# Altium footprint library Transistor.PcbLib: 227 footprints (part 14 of 15)
Each footprint in its own frame and in the unit in brackets; x right, y up, seen from the top. Pads: shape width x height; smd on the part's side, far side on the other; paste and mask are expansions set on the pad; w line width, h text height; cw(c..) or ccw(c..) is an arc to the next point about the centre after c.
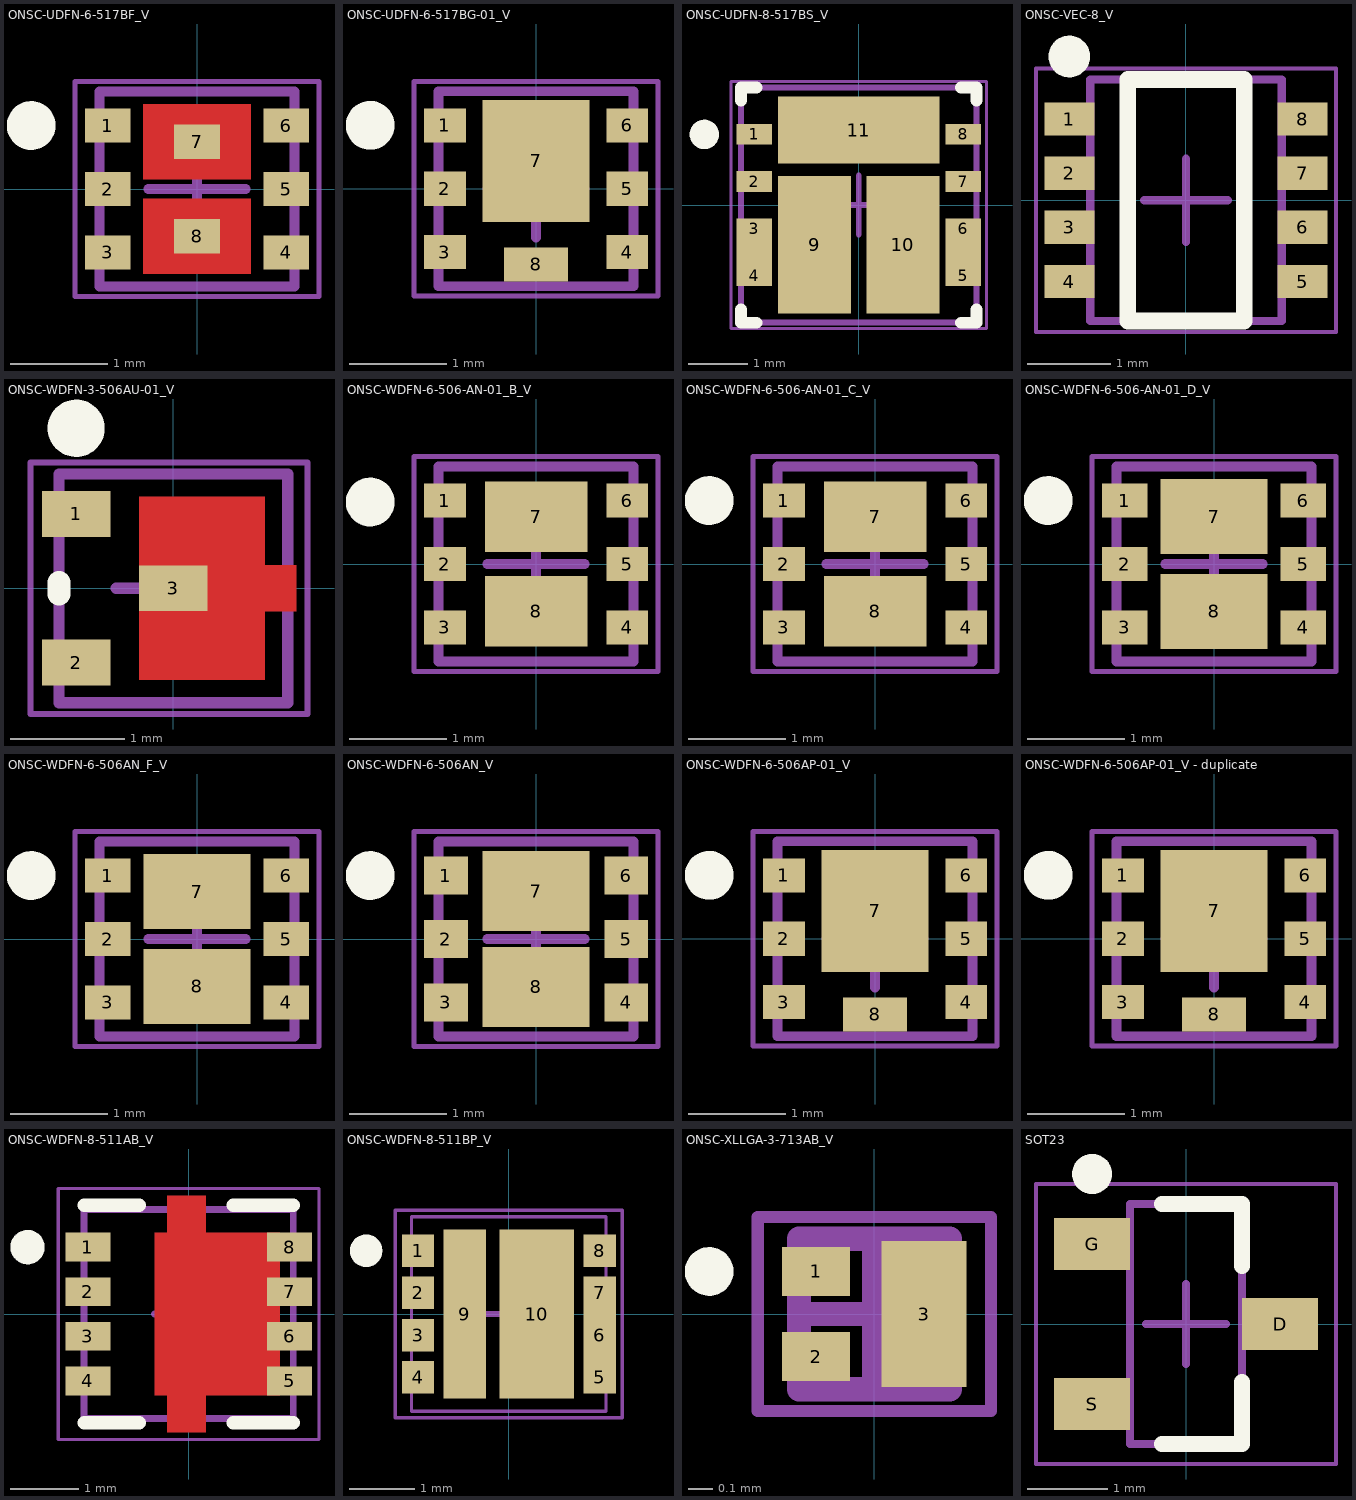
[diagram p13: the footprints below, top view; thin cyan lines are the x and y axes]

## ONSC-UDFN-6-517BF_V [mm] "SON, 6-Leads, Body 2x2mm, Pitch 0.65mm"
height 0.55
pads (8):
  rect 0.47x0.35 smd: 1(-0.915,0.65) 2(-0.915,0) 3(-0.915,-0.65) 4(0.915,-0.65) 5(0.915,0) 6(0.915,0.65)
  rect 0.47x0.35 smd paste+0 mask+0: 7(0,0.485) 8(0,-0.485)
Top Layer:
  region: -0.55,0.1 -0.55,0.87 0.55,0.87 0.55,0.1
  region: -0.55,-0.87 -0.55,-0.1 0.55,-0.1 0.55,-0.87
Top Overlay:
  circle w0.25: c-1.7,0.65 r0.125
Mechanical 13:
  lines w0.1: -1,-1 -1,1 1,1 1,-1 -1,-1
Mechanical 15:
  lines w0.05: -1.25,-1.1 -1.25,1.1 1.25,1.1 1.25,-1.1 -1.25,-1.1
  lines w0.1: -0.5,0 0.5,0 ; 0,-0.5 0,0.5
3D body: height 0.55, standoff 0, extent -1,-1 1,1

## ONSC-UDFN-6-517BG-01_V [mm] "SON, 6-Leads, Body 2x2mm, Pitch 0.65mm"
height 0.55
pads (8):
  rect 0.43x0.35 smd: 1(-0.935,0.65) 2(-0.935,0) 3(-0.935,-0.65) 4(0.935,-0.65) 5(0.935,0) 6(0.935,0.65)
  rect 1.1x1.25 smd: 7(0,0.285)
  rect 0.66x0.35 smd: 8(0,-0.775)
Top Overlay:
  circle w0.25: c-1.7,0.65 r0.125
Mechanical 13:
  lines w0.1: -1,-1 1,-1 1,1 -1,1 -1,-1
Mechanical 15:
  lines w0.05: -1.25,-1.1 1.25,-1.1 1.25,1.1 -1.25,1.1 -1.25,-1.1
  lines w0.1: -0.5,0 0.5,0 ; 0,-0.5 0,0.5
3D body: height 0.55, standoff 0, extent -1,-1 1,1

## ONSC-UDFN-8-517BS_V [mm] "SON, 8-Leads, Body 4x4mm, Pitch 0.8mm"
height 0.55
pads (13):
  rect 0.6x0.35 smd: 1(-1.775,1.2) 2(-1.775,0.4) 3(-1.775,-0.4) 4(-1.775,-1.2) 5(1.775,-1.2) 6(1.775,-0.4) 7(1.775,0.4) 8(1.775,1.2)
  rect 1.24x2.34 smd: 9(-0.75,-0.675) 10(0.75,-0.675)
  rect 2.74x1.14 smd: 11(0,1.275)
  rect 0.6x1.15 smd: ""(-1.775,-0.8) ""(1.775,-0.8)
Top Overlay:
  circle w0.25: c-2.625,1.2 r0.125
  lines w0.2: -2,-1.775 -2,-2 -1.739,-2 ; -2,1.775 -2,2 -1.739,2 ; 1.739,-2 2,-2 2,-1.775 ; 1.739,2 2,2 2,1.775
Mechanical 13:
  lines w0.1: -2,-2 -2,2 2,2 2,-2 -2,-2
Mechanical 15:
  lines w0.05: -2.175,-2.1 -2.175,2.1 2.175,2.1 2.175,-2.1 -2.175,-2.1
  lines w0.1: -0.5,0 0.5,0 ; 0,-0.5 0,0.5
3D body: height 0.55, standoff 0, extent -2,-2 2,2

## ONSC-VEC-8_V [mm] "SOT23, 8-Leads, Body 2.9x2.3mm, Pitch 0.65mm"
height 0.8
pads (8):
  rect 0.6x0.4 smd: 1(-1.4,0.975) 2(-1.4,0.325) 3(-1.4,-0.325) 4(-1.4,-0.975) 5(1.4,-0.975) 6(1.4,-0.325) 7(1.4,0.325) 8(1.4,0.975)
Top Overlay:
  circle w0.25: c-1.4,1.725 r0.125
  lines w0.2: -0.7,-1.45 -0.7,1.45 0.7,1.45 0.7,-1.45 -0.7,-1.45
Mechanical 13:
  lines w0.1: -1.15,-1.45 -1.15,1.45 1.15,1.45 1.15,-1.45 -1.15,-1.45
Mechanical 15:
  lines w0.05: -1.8,-1.58 -1.8,1.58 1.8,1.58 1.8,-1.58 -1.8,-1.58
  lines w0.1: -0.5,0 0.5,0 ; 0,-0.5 0,0.5
3D body: height 0.8, standoff 0, extent -1.15,-1.45 1.15,1.45

## ONSC-WDFN-3-506AU-01_V [mm] "WDFN, 3-Leads, Body 2 x 2mm, Pitch 1.3mm"
height 0.8
pads (3):
  rect 0.6x0.4 smd: 1(-0.85,0.65) 2(-0.85,-0.65) 3(0,0)
Top Layer:
  region: -0.3,-0.8 -0.3,0.8 0.8,0.8 0.8,0.2 1.075,0.2 1.075,-0.2 0.8,-0.2 0.8,-0.8
Top Overlay:
  circle w0.25: c-0.85,1.4 r0.125
  lines w0.2: -1,-0.05 -1,0.05
Top Paste:
  region: -0.3,-0.8 -0.3,0.8 0.8,0.8 0.8,0.2 1.075,0.2 1.075,-0.2 0.8,-0.2 0.8,-0.8
Mechanical 13:
  lines w0.1: -1,-1 -1,1 1,1 1,-1 -1,-1
Mechanical 15:
  lines w0.05: -1.25,-1.1 1.175,-1.1 1.175,1.1 -1.25,1.1 -1.25,-1.1
  lines w0.1: -0.5,0 0.5,0 ; 0,-0.5 0,0.5
3D body: height 0.8, standoff 0, extent -1,-1 1,1

## ONSC-WDFN-6-506-AN-01_B_V [mm] "SON, 6-Leads, Body 2x2mm, Pitch 0.65mm"
height 0.8
pads (8):
  rect 0.43x0.35 smd: 1(-0.935,0.65) 2(-0.935,0) 3(-0.935,-0.65) 4(0.935,-0.65) 5(0.935,0) 6(0.935,0.65)
  rect 1.05x0.72 smd: 7(0,0.485) 8(0,-0.485)
Top Overlay:
  circle w0.25: c-1.7,0.635 r0.125
Mechanical 13:
  lines w0.1: -1,-1 1,-1 1,1 -1,1 -1,-1
Mechanical 15:
  lines w0.05: -1.25,-1.1 1.25,-1.1 1.25,1.1 -1.25,1.1 -1.25,-1.1
  lines w0.1: -0.5,0 0.5,0 ; 0,-0.5 0,0.5
3D body: height 0.8, standoff 0, extent -1,-1 1,1

## ONSC-WDFN-6-506-AN-01_C_V [mm] "SON, 6-Leads, Body 2x2mm, Pitch 0.65mm"
height 0.8
pads (8):
  rect 0.43x0.35 smd: 1(-0.935,0.65) 2(-0.935,0) 3(-0.935,-0.65) 4(0.935,-0.65) 5(0.935,0) 6(0.935,0.65)
  rect 1.05x0.72 smd: 7(0,0.485) 8(0,-0.485)
Top Overlay:
  circle w0.25: c-1.7,0.65 r0.125
Mechanical 13:
  lines w0.1: -1,-1 1,-1 1,1 -1,1 -1,-1
Mechanical 15:
  lines w0.05: -1.25,-1.1 1.25,-1.1 1.25,1.1 -1.25,1.1 -1.25,-1.1
  lines w0.1: -0.5,0 0.5,0 ; 0,-0.5 0,0.5
3D body: height 0.8, standoff 0, extent -1,-1 1,1

## ONSC-WDFN-6-506-AN-01_D_V [mm] "SON, 6-Leads, Body 2x2mm, Pitch 0.65mm"
height 0.8
pads (8):
  rect 0.47x0.35 smd: 1(-0.915,0.65) 2(-0.915,0) 3(-0.915,-0.65) 4(0.915,-0.65) 5(0.915,0) 6(0.915,0.65)
  rect 1.1x0.77 smd: 7(0,0.485) 8(0,-0.485)
Top Overlay:
  circle w0.25: c-1.7,0.65 r0.125
Mechanical 13:
  lines w0.1: -1,-1 1,-1 1,1 -1,1 -1,-1
Mechanical 15:
  lines w0.05: -1.25,-1.1 1.25,-1.1 1.25,1.1 -1.25,1.1 -1.25,-1.1
  lines w0.1: -0.5,0 0.5,0 ; 0,-0.5 0,0.5
3D body: height 0.8, standoff 0, extent -1,-1 1,1

## ONSC-WDFN-6-506AN_F_V [mm] "WDFN, 6-Leads, Body 2x2mm, Pitch 0.65mm"
height 0.8
pads (8):
  rect 0.47x0.35 smd: 1(-0.915,0.65) 2(-0.915,0) 3(-0.915,-0.65) 4(0.915,-0.65) 5(0.915,0) 6(0.915,0.65)
  rect 1.1x0.77 smd: 7(0,0.485) 8(0,-0.485)
Top Overlay:
  circle w0.25: c-1.7,0.65 r0.125
Mechanical 13:
  lines w0.1: -1,-1 -1,1 1,1 1,-1 -1,-1
Mechanical 15:
  lines w0.05: -1.25,-1.1 -1.25,1.1 1.25,1.1 1.25,-1.1 -1.25,-1.1
  lines w0.1: -0.5,0 0.5,0 ; 0,-0.5 0,0.5
3D body: height 0.8, standoff 0, extent -1,-1 1,1

## ONSC-WDFN-6-506AN_V [mm] "DFN, 6-Leads, Body 2x2mm, Pitch 0.65mm"
height 0.8
pads (8):
  rect 0.45x0.39 smd: 1(-0.925,0.65) 2(-0.925,0) 3(-0.925,-0.65) 4(0.925,-0.65) 5(0.925,0) 6(0.925,0.65)
  rect 1.1x0.82 smd: 7(0,0.49) 8(0,-0.49)
Top Overlay:
  circle w0.25: c-1.7,0.65 r0.125
Mechanical 13:
  lines w0.1: -1,-1 1,-1 1,1 -1,1 -1,-1
Mechanical 15:
  lines w0.05: -1.25,-1.1 1.25,-1.1 1.25,1.1 -1.25,1.1 -1.25,-1.1
  lines w0.1: -0.5,0 0.5,0 ; 0,-0.5 0,0.5
3D body: height 0.8, standoff 0, extent -1,-1 1,1

## ONSC-WDFN-6-506AP-01_V [mm] "SON, 6-Leads, Body 2x2mm, Pitch 0.65mm"
height 0.8
pads (8):
  rect 0.43x0.35 smd: 1(-0.935,0.65) 2(-0.935,0) 3(-0.935,-0.65) 4(0.935,-0.65) 5(0.935,0) 6(0.935,0.65)
  rect 1.1x1.25 smd: 7(0,0.285)
  rect 0.66x0.35 smd: 8(0,-0.775)
Top Overlay:
  circle w0.25: c-1.7,0.65 r0.125
Mechanical 13:
  lines w0.1: -1,-1 -1,1 1,1 1,-1 -1,-1
Mechanical 15:
  lines w0.05: -1.25,-1.1 -1.25,1.1 1.25,1.1 1.25,-1.1 -1.25,-1.1
  lines w0.1: -0.5,0 0.5,0 ; 0,-0.5 0,0.5
3D body: height 0.8, standoff 0, extent -1,-1 1,1

## ONSC-WDFN-6-506AP-01_V - duplicate [mm] "SON, 6-Leads, Body 2x2mm, Pitch 0.65mm"
height 0.8
pads (8):
  rect 0.43x0.35 smd: 1(-0.935,0.65) 2(-0.935,0) 3(-0.935,-0.65) 4(0.935,-0.65) 5(0.935,0) 6(0.935,0.65)
  rect 1.1x1.25 smd: 7(0,0.285)
  rect 0.66x0.35 smd: 8(0,-0.775)
Top Overlay:
  circle w0.25: c-1.7,0.65 r0.125
Mechanical 13:
  lines w0.1: -1,-1 1,-1 1,1 -1,1 -1,-1
Mechanical 15:
  lines w0.05: -1.25,-1.1 1.25,-1.1 1.25,1.1 -1.25,1.1 -1.25,-1.1
  lines w0.1: -0.5,0 0.5,0 ; 0,-0.5 0,0.5
3D body: height 0.8, standoff 0, extent -1,-1 1,1

## ONSC-WDFN-8-511AB_V [mm] "DFN, 8-Leads, Body 3.05x3.05mm, Pitch 0.65mm"
height 0.8
pads (8):
  rect 0.66x0.42 smd: 1(-1.47,0.975) 2(-1.47,0.325) 3(-1.47,-0.325) 4(-1.47,-0.975) 5(1.47,-0.975) 6(1.47,-0.325) 7(1.47,0.325) 8(1.47,0.975)
Top Layer:
  region: 1.33,-1.185 1.33,1.185 -0.5,1.185 -0.5,-1.185
  region: 0.25,-1.73 0.25,1.73 -0.32,1.73 -0.32,-1.73
Top Overlay:
  circle w0.25: c-2.35,0.975 r0.125
  lines w0.2: -1.525,-1.585 -0.72,-1.585 ; -1.525,1.585 -0.72,1.585 ; 0.65,-1.585 1.525,-1.585 ; 0.65,1.585 1.525,1.585
Mechanical 13:
  lines w0.1: -1.525,-1.525 -1.525,1.525 1.525,1.525 1.525,-1.525 -1.525,-1.525
Mechanical 15:
  lines w0.05: -1.9,-1.83 -1.9,1.83 1.9,1.83 1.9,-1.83 -1.9,-1.83
  lines w0.1: -0.5,0 0.5,0 ; 0,-0.5 0,0.5
3D body: height 0.8, standoff 0, extent -1.525,-1.525 1.525,1.525

## ONSC-WDFN-8-511BP_V [mm] "SON, 8-Leads, Body 3x3mm, Pitch 0.65mm"
height 0.8
pads (11):
  rect 0.5x0.5 smd: 1(-1.4,0.975) 2(-1.4,0.325) 3(-1.4,-0.325) 4(-1.4,-0.975) 5(1.4,-0.975) 6(1.4,-0.325) 7(1.4,0.325) 8(1.4,0.975)
  rect 0.65x2.6 smd: 9(-0.68,0)
  rect 1.15x2.6 smd: 10(0.43,0)
  rect 0.5x1.8 smd: ""(1.4,-0.325)
Top Overlay:
  circle w0.25: c-2.2,0.975 r0.125
Mechanical 13:
  lines w0.05: -1.5,-1.5 1.5,-1.5 1.5,1.5 -1.5,1.5 -1.5,-1.5
Mechanical 15:
  lines w0.05: -1.75,-1.6 1.75,-1.6 1.75,1.6 -1.75,1.6 -1.75,-1.6
  lines w0.1: -0.5,0 0.5,0 ; 0,-0.5 0,0.5
3D body: height 0.8, standoff 0, extent -1.5,-1.5 1.5,1.5

## ONSC-XLLGA-3-713AB_V [mm] "XLLGA, 3-Leads, Body 0.62x0.62mm, Pitch 0.35mm"
height 0.44
pads (3):
  rect 0.28x0.2 smd: 1(-0.24,0.175) 2(-0.24,-0.175)
  rect 0.35x0.6 smd: 3(0.205,0)
Top Overlay:
  circle w0.1: c-0.68,0.175 r0.05
Mechanical 13:
  lines w0.1: -0.31,-0.31 0.31,-0.31 0.31,0.31 -0.31,0.31 -0.31,-0.31
Mechanical 15:
  lines w0.05: -0.48,-0.4 -0.48,0.4 0.48,0.4 0.48,-0.4 -0.48,-0.4
  lines w0.1: -0.25,0 0.25,0 ; 0,-0.25 0,0.25
3D body: height 0.44, standoff 0, extent -0.31,-0.31 0.31,0.31

## SOT23 [mm]
pads (3):
  rect 0.95x0.65 smd: D(1.175,0) G(-1.175,1) S(-1.175,-1)
Top Overlay:
  circle w0.25: c-1.175,1.875 r0.125
  lines w0.2: -0.3,-1.5 0.7,-1.5 0.7,-0.725 ; -0.3,1.5 0.7,1.5 0.7,0.725
Mechanical 13:
  lines w0.1: -0.7,-1.5 -0.7,1.5 0.7,1.5 0.7,-1.5 -0.7,-1.5
Mechanical 15:
  lines w0.05: -1.875,-1.75 -1.875,1.75 1.875,1.75 1.875,-1.75 -1.875,-1.75
  lines w0.1: -0.5,0 0.5,0 ; 0,-0.5 0,0.5
3D body "SOT23.step": height 0.9, standoff 0, extent -1.25,-1.5 1.25,1.5